# Altium schematic symbol library gliax_ecg_simple.SchLib: 17 symbols
Pins are listed as number, name and electrical type; pins without a type are passive.

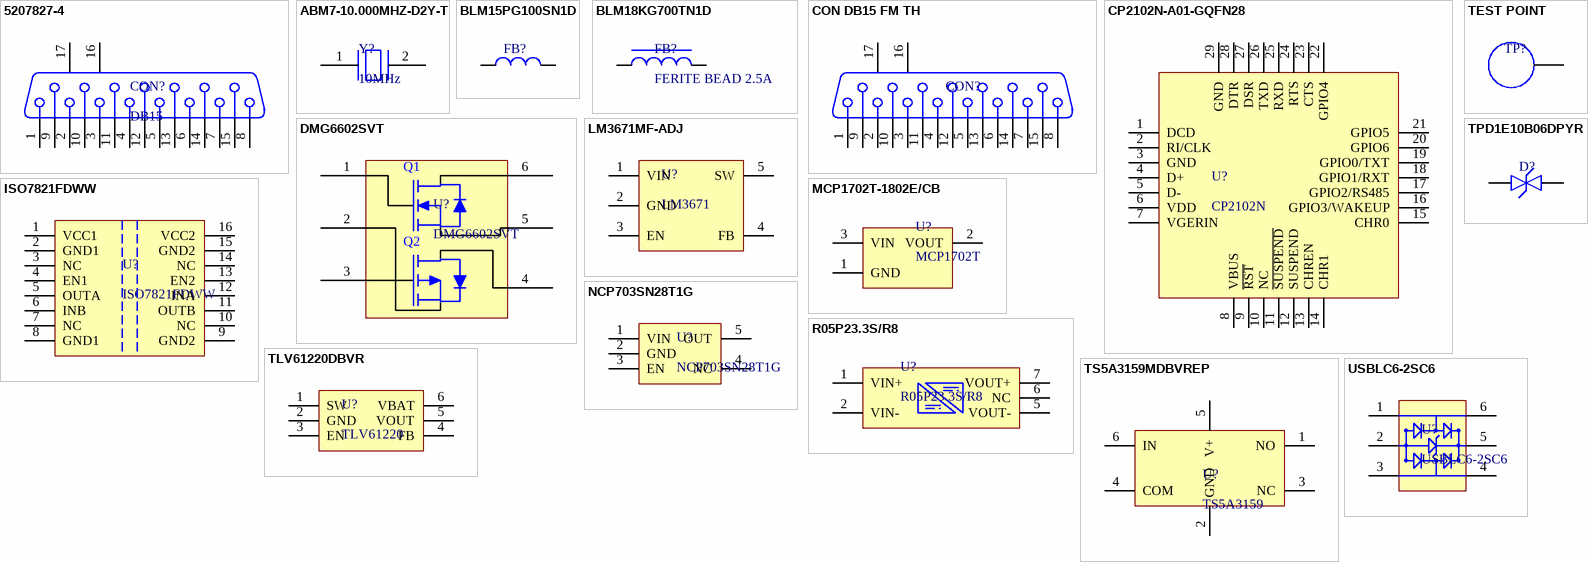
[diagram p0: symbols 5207827-4 to USBLC6-2SC6]

## 5207827-4
designator CON?, comment DB15
D-Sub Standard Connectors DSUB A15S V/MNT; Manufacturer: TE Connectivity; Manufacturer Part Number: 5207827-4; Body Material: Plastic; Voltage Rating: 125V; Current Rating: 6A; Gender: Female; Connector Type: Receptacle; Number of Positions: 15; Number of Ports: 1; Mating Connector Lock: No (Without); PCB Mount Retention: With; PCB Mounting Orientation: Vertical; Preloaded: Yes; Pitch: 0.108inch; PCB Thickness: 2.36mm; Hole Diameter: 0.12inch; Supplier 1: Farnell; Stock 1: 0; Mount: Through Hole; Color: Black; Contact Plating: Gold,Nickel,Tin; Contact Material: Bronze; Number of Terminals: 15; Housing Color: Black; Housing Material: Thermoplastic; Contact Shape: Round; Min Operating Temperature: -55°C; Max Operating Temperature: 105°C; Package Quantity: 13; Number of Rows: 2; Packaging: Rail/Tube; Termination: Solder; Number of Contacts: 15; Orientation: Straight; Sealable: No (Without); Length: 39.14mm; Width: 12.17mm; Depth: 10.41mm; Termination Post Length: 0.125inch; Radiation Hardening: No; REACH SVHC: Unknown; Lead Free: Lead Free; ELV: Compliant; Flammability Rating: UL94 V-0; ComponentLink1URL: http://www.te.com/commerce/DocumentDelivery/DDEController?Action=srchrtrv&DocNm=5207827&DocType=Customer+Drawing&DocLang=English; ComponentLink1Description: http://www.te.com/commerce/DocumentDelivery/DDEController?Action=srchrtrv&DocNm=5207827&DocType=Customer+Drawing&DocLang=English; ComponentLink2URL: http://www.farnell.com/cad/1652241.pdf; ComponentLink2Description: http://www.farnell.com/cad/1652241.pdf; ComponentLink3URL: http://www.te.com/commerce/DocumentDelivery/DDEController?Action=srchrtrv&DocNm=82068_AMPLIMITE_Straight_Posted_Conns&DocType=Catalog+Section&DocLang=English; ComponentLink3Description: http://www.te.com/commerce/DocumentDelivery/DDEController?Action=srchrtrv&DocNm=82068_AMPLIMITE_Straight_Posted_Conns&DocType=Catalog+Section&DocLang=English; ComponentLink4URL: https://www.verical.com/server-webapp/html/getDatasheet?partID=46991; ComponentLink4Description: https://www.verical.com/server-webapp/html/getDatasheet?partID=46991; ComponentLink5URL: http://www.farnell.com/datasheets/1648470.pdf; ComponentLink5Description: http://www.farnell.com/datasheets/1648470.pdf; Supplier Part Number 1: 1815066
footprint CONN_3-106506-2_ - vertical
pins: 1, 2, 3, 4, 5, 6, 7, 8, 9, 10, 11, 12, 13, 14, 15, 16 MH1, 17 MH2

## ABM7-10.000MHZ-D2Y-T
designator Y?, comment 10MHz
Crystal 10MHz 18pF 2-Pin SMD T/R; Manufacturer: Abracon; Manufacturer Part Number: ABM7-10.000MHZ-D2Y-T; Frequency Tolerance: ±20 ppm; Frequency Stability: ±30 ppm; Series Resistance: 60 Ohm; Frequency Aging: ±5(1st) ppm/Year; Mode of Oscillation: Fundamental; Package: 2SMD; Standard Frequency: 10 MHz; Load Capacitance: 18 pF; Type: Crystal; Maximum Operating Temperature: 85 °C; Minimum Operating Temperature: -40 °C; Mounting: Surface Mount; Category: Crystals; ComponentLink1URL: https://datasheet.ciiva.com/16397/abm7-16397372.pdf; ComponentLink1Description: https://datasheet.ciiva.com/16397/abm7-16397372.pdf; Supplier 1: Farnell; Supplier Part Number 1: 2849434
footprint CRYSTAL6mmx3.5mm (Crystal, 6mm x 3.5mm)
pins: 1 (oc), 2 (oc)

## BLM15PG100SN1D
designator FB?  (value not drawn)
Ferrite Beads Multi-Layer 10Ohm 100MHz 1A 50mOhm DCR 0402 T/R; Manufacturer: Murata; Manufacturer Part Number: BLM15PG100SN1D; Material: Steel; Impedance: 10R; Number of Lines: 1; DC Resistance (DCR): 25mR; Shielding: Unshielded; Tolerance: 25%; Supplier 1: Farnell; Stock 1: 794; Pricing 1: 10=0.03, 100=0.0217, 500=0.0163, 2500=0.0122, 5000=0.01, 10000=0.0089, 50000=0.007 (EUR); Case/Package: 0402; Number of Pins: 2; Core Material: Ferrite; Case Code (Metric): 1005; Case Code (Imperial): 0402; Min Operating Temperature: -55°C; Max Operating Temperature: 125°C; Packaging: Tape and Reel; Current Rating: 1A; Number of Circuits: 1; Package Quantity: 1; Max Current Rating: 1A; Termination: SMD/SMT; Max DC Current: 1A; Test Frequency: 100MHz; Length: 1mm; Height: 0.5mm; Width: 0.5mm; Depth: 0.55mm; REACH SVHC: No SVHC; Lead Free: Lead Free; ComponentLink1URL: https://datasheet.ciiva.com/41449/001172209-da-01-en-drossel-0402-10r-1-0x0-5mm-10000st-41449496.pdf; ComponentLink1Description: https://datasheet.ciiva.com/41449/001172209-da-01-en-drossel-0402-10r-1-0x0-5mm-10000st-41449496.pdf; ComponentLink2URL: https://datasheet.ciiva.com/46423/1851892-46423898.pdf; ComponentLink2Description: https://datasheet.ciiva.com/46423/1851892-46423898.pdf; ComponentLink3URL: https://datasheet.ciiva.com/6211/l0110e-6211726.pdf; ComponentLink3Description: https://datasheet.ciiva.com/6211/l0110e-6211726.pdf; Supplier Part Number 1: 2443233
footprint IND0402 (Chip Inductor, 2-Leads, Body 1.00x0.50mm, IPC Medium Density)
pins: 1, 2

## BLM18KG700TN1D
designator FB?, comment FERITE BEAD 2.5A
FERRITE CHIP 70 OHM 3500MA 0603; Manufacturer: Murata; Manufacturer Part Number: BLM18KG700TN1D; Material: Steel,Ferrite; Tolerance: 25%; Impedance: 70R; Current Rating: 3.5A; Number of Lines: 1; DC Resistance (DCR): 22mR; Test Frequency: 100MHz; Supplier 1: Farnell; Stock 1: 12022; Pricing 1: 10=0.0523, 100=0.0324, 500=0.0234, 1000=0.0213, 2000=0.0174, 4000=0.0155, 20000=0.0121 (EUR); Case/Package: 0603; Number of Pins: 2; Weight: 7.1E-05oz; Core Material: Ferrite; Case Code (Metric): 1608; Case Code (Imperial): 0603; Min Operating Temperature: -55°C; Max Operating Temperature: 125°C; Package Quantity: 1; Packaging: Tape and Reel; Max Current Rating: 3.5A; Termination: SMD/SMT; Max DC Current: 3.5A; Number of Circuits: 1; Length: 1.6mm; Height: 0.8mm; Width: 0.8mm; Depth: 0.8mm; REACH SVHC: No SVHC; Lead Free: Lead Free; ComponentLink1URL: https://datasheet.ciiva.com/11795/0900766b81076276-11795742.pdf; ComponentLink1Description: https://datasheet.ciiva.com/11795/0900766b81076276-11795742.pdf; ComponentLink2URL: https://datasheet.ciiva.com/1012/l0110e-1012328.pdf; ComponentLink2Description: https://datasheet.ciiva.com/1012/l0110e-1012328.pdf; ComponentLink3URL: https://datasheet.ciiva.com/1012/l0110e-1012326.pdf; ComponentLink3Description: https://datasheet.ciiva.com/1012/l0110e-1012326.pdf; ComponentLink4URL: https://datasheet.ciiva.com/17170/l0110s0100blm18k-17170007.pdf; ComponentLink4Description: https://datasheet.ciiva.com/17170/l0110s0100blm18k-17170007.pdf; ComponentLink5URL: https://datasheet.ciiva.com/7649/486545-7649494.pdf; ComponentLink5Description: https://datasheet.ciiva.com/7649/486545-7649494.pdf; ComponentLink6URL: https://datasheet.ciiva.com/1012/l0110e-1012327.pdf; ComponentLink6Description: https://datasheet.ciiva.com/1012/l0110e-1012327.pdf; ComponentLink7URL: https://datasheet.ciiva.com/41449/001172296-da-01-en-drossel-0603-70r-31-6x0-8mm-4000st-41449660.pdf; ComponentLink7Description: https://datasheet.ciiva.com/41449/001172296-da-01-en-drossel-0603-70r-31-6x0-8mm-4000st-41449660.pdf; Supplier Part Number 1: 1781088
footprint FB_0603 (Chip Inductor, 2-Leads, Body 1.60x0.80mm, IPC Medium Density)
pins: 1, 2

## CON DB15 FM TH
designator CON?  (value not drawn)
SOCKET, D, 40-40UNC, 15WAY; Manufacturer: TE Connectivity; Manufacturer Part Number: 3-106506-2; Plating: Tin; Body Material: Steel,Metal; Gender: Female; Voltage Rating: 125V; Current Rating: 6A; Connector Type: Receptacle; Number of Positions: 15; Number of Ports: 1; Mating Alignment: Yes (With); PCB Mount Retention: With; PCB Mounting Orientation: Right Angle; Preloaded: Yes; Sealable: No (Without); Pitch: 2.74mm; PCB Thickness: 1.57mm; Supplier 1: Farnell; Stock 1: 773; Pricing 1: 1=3.6, 10=3.17, 50=3.02, 100=2.88, 150=2.49, 250=2.09 (EUR); Mount: Through Hole; Contact Plating: Tin,Gold; Contact Material: Bronze; Colour: Black; Shell Material: Steel; Number of Terminals: 15; Housing Material: Polyester; Material: Steel; Housing Colour: Black; Min Operating Temperature: -55°C; Max Operating Temperature: 105°C; Number of Rows: 2; Packaging: Tray; Package Quantity: 45; Termination: Solder; Number of Contacts: 15; Orientation: Right Angle; Mating Connector Lock: Yes (With); Mating Retention: Yes (With); PCB Mount Alignment: Yes (With); Length: 39.2mm; Width: 13.6mm; Depth: 21.3mm; Termination Post Length: 3.2mm; Radiation Hardening: No; REACH SVHC: Unknown; ELV: Compliant; Flammability Rating: UL94 V-0; ComponentLink1URL: https://datasheet.ciiva.com/11743/0900766b804c485c-11743706.pdf; ComponentLink1Description: https://datasheet.ciiva.com/11743/0900766b804c485c-11743706.pdf; ComponentLink2URL: https://datasheet.ciiva.com/10370/eng-cs-82068-amplimite-right-angle-posted-conn-0412-10370986.pdf; ComponentLink2Description: https://datasheet.ciiva.com/10370/eng-cs-82068-amplimite-right-angle-posted-conn-0412-10370986.pdf; ComponentLink3URL: https://datasheet.ciiva.com/6965/eng-cd-106506-m-6965100.pdf; ComponentLink3Description: https://datasheet.ciiva.com/6965/eng-cd-106506-m-6965100.pdf; Supplier Part Number 1: 3417220
footprint CONN_3-106506-2_
pins: 1, 2, 3, 4, 5, 6, 7, 8, 9, 10, 11, 12, 13, 14, 15, 16 MH1, 17 MH2

## CP2102N-A01-GQFN28
designator U?, comment CP2102N
SILICON LABS         CP2102N-A01-GQFN28             Interface Bridges, USB to UART, 3 V, 3.6 V, QFN, 28 Pins, -40 C                          New; Min Supply Voltage: 3V; Max Supply Voltage: 3.6V; Supplier 1: Farnell; Manufacturer: Silicon Labs; Manufacturer Part Number: CP2102N-A01-GQFN28; Stock 1: 729; Pricing 1: 1=1.31, 10=1.2, 25=1.11, 50=1.09, 100=1.07, 250=1.05, 500=1.03, 1000=1.01 (GBP); Case/Package: QFN; Number of Pins: 28; Min Operating Temperature: -40°C; Max Operating Temperature: 85°C; REACH SVHC: Unknown; Supplier Part Number 1: 2577279; ComponentLink1Description: Datasheet; ComponentLink1URL: https://www.silabs.com/documents/public/data-sheets/cp2102n-datasheet.pdf; ComponentLink2Description: Reference design; ComponentLink2URL: https://download.mikroe.com/documents/add-on-boards/click/usb-uart-3/usb-3-uart-click-schematic-v100.pdf
footprint QFN50P500X500X80_HS-29N (QFN, 28-Leads, Body 5.00x5.00mm, Pitch 0.50mm, Thermal Pad 3.35x3.35mm, IPC Medium Density)
pins: 1 DCD (oc), 2 RI/CLK (oc), 3 GND (oc), 4 D+ (oc), 5 D- (oc), 6 VDD (oc), 7 VGERIN (oc), 8 VBUS (oc), 9 ~{RST} (oc), 10 NC (oc), 11 ~{SUSPEND} (oc), 12 SUSPEND (oc), 13 CHREN (oc), 14 CHR1 (oc), 15 CHR0 (oc), 16 GPIO3/WAKEUP (oc), 17 GPIO2/RS485 (oc), 18 GPIO1/RXT (oc), 19 GPIO0/TXT (oc), 20 GPIO6 (oc), 21 GPIO5 (oc), 22 GPIO4 (oc), 23 CTS (oc), 24 RTS (oc), 25 RXD (oc), 26 TXD (oc), 27 DSR (oc), 28 DTR (oc), 29 GND (oc)

## DMG6602SVT
designator U?
DIODES INC. - DMG6602SVT - MOSFET, NP CH, , 30V, 3.4, ATSOT23; Transistor Polarity: N and P Channel; Continuous Drain Current Id: 3.4; Drain Source Voltage Vds: 30; On Resistance Rds(on): 0.038; Rds(on) Test Voltage Vgs: 10; Threshold Voltage Vgs: 1; Power Dissipation Pd: 1.12; Transistor Case Style: TSOT-26; No. of Pins: 6; SVHC: No SVHC (17-Dec-2015); Continuous Drain Current Id, P Channel: -2.8; Drain Source Voltage Vds, P Channel: -30; Module Configuration: Dual; On Resistance Rds(on), P Channel: 0.073; Supplier 1: Farnell; Manufacturer: DIODES INC.; Manufacturer Part Number: DMG6602SVT; RoHS: YES; Stock 1: 4881; Pricing 1: 1=0.363, 25=0.339, 100=0.169, 250=0.166, 500=0.108, 1000=0.0809, 2000=0.0793, 6000=0.0777 (GBP); Operating Temperature Max: 150; Product Range: -; Automotive Qualification Standard: -; MSL: -; Continuous Drain Current Id, N Channel: 3.4; Drain Source Voltage Vds, N Channel: 30; On Resistance Rds(on), N Channel: 0.038; Operating Temperature Min: -55; Operating Temperature Range: -55°C to +150°C<!--FANDB--><div class="features-and-benefits-container"><div class="features-and-benefits-description"><span class="features-benefits-value">The DMG6602SVT from Diode Inc is a surface mount complementary pair enhancement mode MOSFET in TSOT-26 package. This MOSFET features low input capacitance, fast switching speed and low input/output leakage, designed to minimize the onstate resistance and maintain superior switching performance, making it ideal for high efficiency power management applications and backlighting.</span></div><div class="features-and-benefits-list"><ul class="features-and-benefits-list-list"><li class="features-and-benefits-list-item">Automotive grade AEC-Q101 qualified</li><li class="features-and-benefits-list-item">UL recognized</li><li class="features-and-benefits-list-item">Drain to source voltage (Vds) of 30V</li><li class="features-and-benefits-list-item">Gate to source voltage (Vgs) of ±20V</li><li class="features-and-benefits-list-item">Continuous drain current of 3.4A</li><li class="features-and-benefits-list-item">Power dissipation (Pd) of 1.27W</li><li class="features-and-benefits-list-item">Operating temperature range -55°C to 150°C</li><li class="features-and-benefits-list-item">Low on state resistance of 38mohm at Vgs of 10; ComponentLink1URL: http://www.farnell.com/datasheets/1915929.pdf; ComponentLink1Description: http://www.farnell.com/datasheets/1915929.pdf; Supplier Part Number 1: 2061522
footprint TSOT26
pins: 1 G1 (oc), 2 S2 (oc), 3 G2 (oc), 4 D2 (oc), 5 S1 (oc), 6 D1 (oc)
text: Q1; Q2

## ISO7821FDWW
designator U?
TEXAS INSTRUMENTS         ISO7821FDWW             Digital Isolator, 100 MBPS, 2 Channel, 11 ns, 2.25 V, 5.5 V, SOIC, 16 Pins; Number of Channels: 2; Channel Type: Unidirectional; Propagation Delay: 16ns; Min Supply Voltage: 2.25V; Max Supply Voltage: 5.5V; Isolated Power: No; Pulse Width Distortion (PWD): 4.6ns; Supplier 1: Digi-Key; Manufacturer: Texas Instruments; Manufacturer Part Number: ISO7821FDWW; Stock 1: 874; Pricing 1: 1=7.92, 10=7.151, 45=6.81822, 135=5.9203, 540=5.1553, 1035=4.4901 (USD); Case/Package: SOIC; Number of Pins: 16; Min Operating Temperature: -55°C; Max Operating Temperature: 125°C; Packaging: Rail/Tube; Data Rate: 100Mbps; Type: General Purpose; REACH SVHC: No SVHC; Lead Free: Lead Free; Supplier Part Number 1: 296-43869-5-ND
footprint SOIC127P1720X264-16N (SOIC, 16-Leads, Body 10.30x14.00mm, Pitch 1.27mm, IPC Medium Density)
pins: 1 VCC1 (oc), 2 GND1 (oc), 3 NC (oc), 4 EN1 (oc), 5 OUTA (oc), 6 INB (oc), 7 NC (oc), 8 GND1 (oc), 9 GND2 (oc), 10 NC (oc), 11 OUTB (oc), 12 INA (oc), 13 EN2 (oc), 14 NC (oc), 15 GND2 (oc), 16 VCC2 (oc)

## LM3671MF-ADJ
designator U?, comment LM3671
IC REG BCK ADJ 0.6A SYNC SOT23-5; Manufacturer: Texas Instruments; Manufacturer Part Number: LM3671MF-ADJ; Frequency: 2MHz; Number of Outputs: 1; Output Current: 600mA; Switching Frequency: 2.6MHz; Output Voltage: 3.3V; Quiescent Current: 1.7mA; Max Input Voltage: 5.5V; Min Supply Voltage: 2.7V; Min Output Voltage: 1.1V; Synchronous Rectifier: Yes; Supplier 1: Farnell; Stock 1: 1509; Pricing 1: 1=0.575, 30=0.472, 80=0.43, 250=0.39, 500=0.304 (GBP); Mount: Surface Mount; Case/Package: SOT-23; Number of Pins: 5; Min Operating Temperature: -40°C; Max Operating Temperature: 85°C; Packaging: Tape and Reel; Package Quantity: 1000; Termination: SMD/SMT; Max Output Current: 600mA; Max Supply Voltage: 5.5V; Min Input Voltage: 2.7V; Max Output Voltage: 3.3V; Radiation Hardening: No; Lead Free: Contains Lead; REACH SVHC: No SVHC; ComponentLink1URL: https://datasheet.ciiva.com/12224/lm3671-12224984.pdf; ComponentLink1Description: https://datasheet.ciiva.com/12224/lm3671-12224984.pdf; ComponentLink2URL: https://datasheet.ciiva.com/14304/lm3671-14304698.pdf; ComponentLink2Description: https://datasheet.ciiva.com/14304/lm3671-14304698.pdf; Supplier Part Number 1: 1008256
footprint SOT95P280X145-5N (SOT23, 5-Leads, Body 2.90x2.80mm, Pitch 0.95mm, IPC Medium Density)
pins: 1 VIN (oc), 2 GND (oc), 3 EN (oc), 4 FB (oc), 5 SW (oc)

## MCP1702T-1802E/CB
designator U?, comment MCP1702T
IC REG LDO 1.8V 0.2A SOT23A-3; Manufacturer: Microchip; Manufacturer Part Number: MCP1702T-1802E/CB; Number of Outputs: 1; Min Input Voltage: 2.7V; Max Input Voltage: 13.2V; Max Output Current: 250mA; Dropout Voltage: 330mV; Input Bias Current: 2uA; Polarity: Positive; Quiescent Current: 5uA; Accuracy: 2%; Power Dissipation: 253mW; Output Type: Fixed; Supplier 1: Digi-Key; Stock 1: 4052; Pricing 1: 1=0.49, 25=0.412, 100=0.3708 (USD); Mount: Surface Mount; Case/Package: SOT-23; Number of Pins: 3; Min Operating Temperature: -40°C; Max Operating Temperature: 125°C; Package Quantity: 3000; Output Voltage: 1.8V; Packaging: Tape and Reel; Output Current: 250mA; Nominal Output Voltage: 1.8V; Max Supply Voltage: 13.2V; Min Supply Voltage: 2.7V; Min Output Voltage: 1.8V; Max Output Voltage: 1.8V; Termination: SMD/SMT; Output Voltage Accuracy: 2%; Nominal Supply Current: 5uA; Length: 3.1mm; Height: 1.3mm; Width: 1.8mm; Radiation Hardening: No; REACH SVHC: No SVHC; Lead Free: Lead Free; ComponentLink1URL: http://www.microchip.com/mymicrochip/filehandler.aspx?ddocname=en028186; ComponentLink1Description: http://www.microchip.com/mymicrochip/filehandler.aspx?ddocname=en028186; ComponentLink2URL: https://www.distrelec.biz/Web/Downloads/_t/ds/MCP1702_eng_tds.pdf?mime=application%2Fpdf; ComponentLink2Description: https://www.distrelec.biz/Web/Downloads/_t/ds/MCP1702_eng_tds.pdf?mime=application%2Fpdf; ComponentLink3URL: http://ww1.microchip.com/downloads/en/DeviceDoc/22008E.pdf; ComponentLink3Description: http://ww1.microchip.com/downloads/en/DeviceDoc/22008E.pdf; ComponentLink4URL: http://www.produktinfo.conrad.com/datenblaetter/1000000-1099999/001085880-da-01-en-IC_REG_L_MCP1702T_1802E_CB_T23A_SO_3_MCP.pdf; ComponentLink4Description: http://www.produktinfo.conrad.com/datenblaetter/1000000-1099999/001085880-da-01-en-IC_REG_L_MCP1702T_1802E_CB_T23A_SO_3_MCP.pdf; Supplier Part Number 1: MCP1702T-1802E/CBCT-ND
pins: 1 GND (oc), 2 VOUT (oc), 3 VIN (oc)

## NCP703SN28T1G
designator U?
LDO Voltage Regulators 300mA Lo Quiescent Crnt LDO Reg; Manufacturer: ON Semiconductor; Dropout Voltage: 180mV; Max Input Voltage: 5.5V; Output Voltage: 2.8V; Min Input Voltage: 2V; Number of Outputs: 1; Max Output Current: 750mA; Min Current Limit: 310mA; Quiescent Current: 20uA; Polarity: Positive; Accuracy: 2%; Power Supply Rejection Ratio (PSRR): 70dB; Output Type: Fixed; Supplier 1: Digi-Key; Manufacturer Part Number: NCP703SN28T1G; Stock 1: 3338; Pricing 1: 1=0.8, 10=0.707, 100=0.542, 500=0.42848, 1000=0.34278 (USD); Mount: Surface Mount; Case/Package: TSOP; Number of Pins: 5; Min Operating Temperature: -40°C; Max Operating Temperature: 125°C; Package Quantity: 3000; Packaging: Tape and Reel; Output Current: 300mA; Number of Regulators: 1; Nominal Output Voltage: 2.8V; Length: 3mm; Height: 1mm; Width: 1.5mm; Radiation Hardening: No; REACH SVHC: No SVHC; Lead Free: Lead Free; Halogen Free: Halogen Free; ComponentLink1URL: http://www.onsemi.com/pub/Collateral/NCP703-D.PDF; ComponentLink1Description: http://www.onsemi.com/pub/Collateral/NCP703-D.PDF; Supplier Part Number 1: NCP703SN28T1GOSCT-ND
footprint TSOP95P280X110-6N (TSOP, 6-Leads, Body 3.00x1.50mm, Pitch 0.95mm, IPC Medium Density)
pins: 1 VIN (oc), 2 GND (oc), 3 EN (oc), 4 NC (oc), 5 OUT (oc)

## R05P23.3S/R8
designator U?
RECOM POWER         R05P23.3S/R8            Isolated Board Mount DC/DC Converter, Medical, Fixed, 1 Output, 4.5 V, 5.5 V, 2 W, 3.3 V; Nominal Input Voltage: 5V; Number of Outputs: 1; Output Power: 2W; Min Input Voltage: 4.5V; Max Input Voltage: 5.5V; Max Output Current: 600mA; Output Voltage: 3.3V; Efficiency: 78%; Isolation Voltage: 8kV; Supplier 1: Digi-Key; Manufacturer: Recom; Manufacturer Part Number: R05P23.3S/R8; Stock 1: 0; Mount: Through Hole; Case/Package: SIP; Number of Pins: 4; Weight: 4.3g; Min Operating Temperature: -40°C; Max Operating Temperature: 85°C; Packaging: Rail/Tube; Output Current: 600mA; Min Input Voltage (DC): 4.5V; Package Quantity: 25; Voltage - Output 1: 3.3V; Max Input Voltage (DC): 5.5V; Max Output Power: 2W; Current - Output 1: 600mA; Isolation: Isolated; Max Power Dissipation: 2W; Max Output Voltage: 3.3V; Length: 19.5mm; Height: 12.5mm; Width: 9.8mm; Depth: 9.8mm; REACH SVHC: No SVHC; Lead Free: Lead Free; ComponentLink1URL: http://www.farnell.com/datasheets/1776690.pdf; ComponentLink1Description: http://www.farnell.com/datasheets/1776690.pdf; ComponentLink2URL: https://www.recom-power.com/pdf/Econoline/RxxP2xx_R.pdf; ComponentLink2Description: https://www.recom-power.com/pdf/Econoline/RxxP2xx_R.pdf; Supplier Part Number 1: 1486-R05P23.3S/R8-CHP
footprint DCDC
pins: 1 VIN+ (oc), 2 VIN- (oc), 5 VOUT- (oc), 6 NC (oc), 7 VOUT+ (oc)

## TEST POINT
designator TP?  (value not drawn)  (no BOM)
footprint TEST_POINT
pins: 1 (oc)

## TLV61220DBVR
designator U?, comment TLV61220
IC REG BST ADJ 0.22A SYNC SOT23; Manufacturer: Texas Instruments; Manufacturer Part Number: TLV61220DBVR; Output Voltage: 5.5V; Number of Outputs: 1; Output Current: 200mA; Efficiency: 95%; Min Input Voltage: 700mV; Min Output Voltage: 1.8V; Synchronous Rectifier: Yes; Switching Frequency: 2MHz; Max Output Current: 400mA; Quiescent Current: 5uA; Topology: Boost; Supplier 1: Farnell; Stock 1: 0; Mount: Surface Mount; Case/Package: SOT-23-6; Number of Pins: 6; Min Operating Temperature: -40°C; Max Operating Temperature: 85°C; Package Quantity: 1; Packaging: Tape and Reel; Max Input Voltage: 5.5V; Max Output Voltage: 5.5V; Length: 3.05mm; Height: 1.3mm; Width: 1.75mm; Radiation Hardening: No; REACH SVHC: No SVHC; Lead Free: Lead Free; ComponentLink1URL: https://datasheet.ciiva.com/22669/1716602-22669510.pdf; ComponentLink1Description: https://datasheet.ciiva.com/22669/1716602-22669510.pdf; ComponentLink2URL: https://datasheet.ciiva.com/6594/tlv61220-6594213.pdf; ComponentLink2Description: https://datasheet.ciiva.com/6594/tlv61220-6594213.pdf; ComponentLink3URL: https://datasheet.ciiva.com/6594/tlv61220-6594214.pdf; ComponentLink3Description: https://datasheet.ciiva.com/6594/tlv61220-6594214.pdf; ComponentLink4URL: https://datasheet.ciiva.com/6594/tlv61220-6594215.pdf; ComponentLink4Description: https://datasheet.ciiva.com/6594/tlv61220-6594215.pdf; ComponentLink5URL: https://datasheet.ciiva.com/14273/tlv61220-14273197.pdf; ComponentLink5Description: https://datasheet.ciiva.com/14273/tlv61220-14273197.pdf; Supplier Part Number 1: 2323546
pins: 1 SW (oc), 2 GND (oc), 3 EN (oc), 4 FB (oc), 5 VOUT (oc), 6 VBAT (oc)

## TPD1E10B06DPYR
designator D?  (value not drawn)
TVS DIODE 5.5VWM 14VC 2X2SON; Manufacturer: Texas Instruments; Manufacturer Part Number: TPD1E10B06DPYR; Capacitance: 12pF; Direction: Bidirectional; Breakdown Voltage: 6V; Number of Channels: 1; Reverse Standoff Voltage: 5.5V; Clamping Voltage: 14V; Peak Pulse Power: 90W; Power Line Protection: No; Leakage Current: 100nA; ESD Protection: Yes; Test Current: 1mA; Element Configuration: Single; Peak Pulse Current: 5A; Interface: GPIO; Supplier 1: Farnell; Stock 1: 6208; Pricing 1: 1=0.415, 50=0.312, 100=0.117, 250=0.108, 500=0.0992, 1000=0.0902 (EUR); Case/Package: 0402; Number of Pins: 2; Contact Plating: Gold; Min Operating Temperature: -40°C; Max Operating Temperature: 125°C; Package Quantity: 1; Packaging: Tape and Reel; Number of Bidirectional Channels: 1; Min Breakdown Voltage: 6V; Working Voltage: 5.5V; Max Reverse Leakage Current: 100nA; Length: 1.1mm; Height: 0.35mm; Width: 0.7mm; Radiation Hardening: No; REACH SVHC: No SVHC; Lead Free: Lead Free; ComponentLink1URL: https://datasheet.ciiva.com/26005/sllseb1b-26005840.pdf; ComponentLink1Description: https://datasheet.ciiva.com/26005/sllseb1b-26005840.pdf; ComponentLink2URL: https://datasheet.ciiva.com/46384/1877100-46384054.pdf; ComponentLink2Description: https://datasheet.ciiva.com/46384/1877100-46384054.pdf; ComponentLink3URL: https://datasheet.ciiva.com/14195/tpd1e10b06-14195178.pdf; ComponentLink3Description: https://datasheet.ciiva.com/14195/tpd1e10b06-14195178.pdf; ComponentLink4URL: https://datasheet.ciiva.com/22691/1877100-22691786.pdf; ComponentLink4Description: https://datasheet.ciiva.com/22691/1877100-22691786.pdf; ComponentLink5URL: https://datasheet.ciiva.com/2961/tpd1e10b06-2961245.pdf; ComponentLink5Description: https://datasheet.ciiva.com/2961/tpd1e10b06-2961245.pdf; ComponentLink6URL: https://datasheet.ciiva.com/2961/tpd1e10b06-2961246.pdf; ComponentLink6Description: https://datasheet.ciiva.com/2961/tpd1e10b06-2961246.pdf; ComponentLink7URL: https://datasheet.ciiva.com/6574/tpd1e10b06-6574654.pdf; ComponentLink7Description: https://datasheet.ciiva.com/6574/tpd1e10b06-6574654.pdf; Supplier Part Number 1: 2345930
footprint D0402
pins: 1 (oc), 2 (oc)

## TS5A3159MDBVREP
designator U?, comment TS5A3159
Manufacturer: Texas Instruments; Manufacturer Part Number: TS5A3159MDBVREP; Min Supply Voltage: 1.65V; Max Supply Voltage: 5.5V; Number of Channels: 1; Number of Outputs: 2; On-State Resistance: 1.1R; Turn-On Delay Time: 35ns; Turn-Off Delay Time: 20ns; Max Supply Current: 100nA; Supply Type: Single; Throw Configuration: SPDT; Bandwidth: 100MHz; Supplier 1: Farnell; Stock 1: 2959; Pricing 1: 1=1.72, 25=1.46, 50=1.32, 100=1.17, 250=1.1, 500=1.02 (EUR); Mount: Surface Mount; Case/Package: SOT-23-6; Number of Pins: 6; Weight: 0.000229oz; Min Operating Temperature: -55°C; Max Operating Temperature: 125°C; Packaging: Tape and Reel; Package Quantity: 3000; Number of Inputs: 1; Operating Supply Current: 100nA; Radiation Hardening: No; REACH SVHC: No SVHC; Lead Free: Lead Free; ComponentLink1URL: https://datasheet.ciiva.com/4918/scds217b-126734-4918496.pdf; ComponentLink1Description: https://datasheet.ciiva.com/4918/scds217b-126734-4918496.pdf; ComponentLink2URL: https://datasheet.ciiva.com/14435/ts5a3159-ep-14435168.pdf; ComponentLink2Description: https://datasheet.ciiva.com/14435/ts5a3159-ep-14435168.pdf; ComponentLink3URL: https://datasheet.ciiva.com/1672/ts5a3159-ep-1672100.pdf; ComponentLink3Description: https://datasheet.ciiva.com/1672/ts5a3159-ep-1672100.pdf; ComponentLink4URL: https://datasheet.ciiva.com/41461/001187279-da-01-en-ic-switch-s-ts5a3159mdbvrep-sot-23-6-tid-41461728.pdf; ComponentLink4Description: https://datasheet.ciiva.com/41461/001187279-da-01-en-ic-switch-s-ts5a3159mdbvrep-sot-23-6-tid-41461728.pdf; ComponentLink5URL: https://datasheet.ciiva.com/1672/ts5a3159-ep-1672101.pdf; ComponentLink5Description: https://datasheet.ciiva.com/1672/ts5a3159-ep-1672101.pdf; ComponentLink6URL: https://datasheet.ciiva.com/1672/ts5a3159-ep-1672102.pdf; ComponentLink6Description: https://datasheet.ciiva.com/1672/ts5a3159-ep-1672102.pdf; Supplier Part Number 1: 2459821
footprint SOT95P280X145-6N (SOT23, 6-Leads, Body 2.90x2.80mm, Pitch 0.95mm, IPC Medium Density)
pins: 1 NO, 2 GND, 3 NC, 4 COM, 5 V+, 6 IN

## USBLC6-2SC6
designator U?
TVS DIODE 5.25VWM 17VC SOT23-6; Manufacturer: STMicroelectronics; Polarity: Bidirectional,Unidirectional; Data Rate: 480Mbps; Capacitance: 3.5pF; Operating Supply Voltage: 1.1V; Number of Elements: 1; Number of Channels: 2; Reverse Breakdown Voltage: 6V; Clamping Voltage: 17V; Working Voltage: 5V; Reverse Standoff Voltage: 5.25V; Power Line Protection: Yes; Test Current: 1mA; Max Reverse Leakage Current: 150nA; Peak Pulse Current: 5A; Element Configuration: Dual; Supplier 1: Farnell; Manufacturer Part Number: USBLC6-2SC6; Stock 1: 40838; Pricing 1: 5=0.327, 50=0.216, 100=0.165, 500=0.155, 1500=0.145 (GBP); Mount: Surface Mount; Case/Package: SOT-23; Number of Pins: 6; Contact Plating: Matte,Tin; Min Operating Temperature: -40°C; Max Operating Temperature: 125°C; Package Quantity: 3000; Packaging: Tape and Reel; Direction: Bidirectional,Unidirectional; Breakdown Voltage: 6V; Termination: SMD/SMT; Number of Bidirectional Channels: 2; Min Breakdown Voltage: 6V; ESD Protection: Yes; Max Breakdown Voltage: 6V; Leakage Current: 150nA; Length: 3.05mm; Height: 1.3mm; Width: 1.75mm; Depth: 1.75mm; Radiation Hardening: No; Lead Free: Lead Free; REACH SVHC: No SVHC; ComponentLink1URL: http://www.farnell.com/datasheets/1690354.pdf; ComponentLink1Description: http://www.farnell.com/datasheets/1690354.pdf; ComponentLink2URL: http://www.st.com/content/ccc/resource/technical/document/datasheet/06/1d/48/9c/6c/20/4a/b2/CD00050750.pdf/files/CD00050750.pdf/jcr:content/translations/en.CD00050750.pdf; ComponentLink2Description: http://www.st.com/content/ccc/resource/technical/document/datasheet/06/1d/48/9c/6c/20/4a/b2/CD00050750.pdf/files/CD00050750.pdf/jcr:content/translations/en.CD00050750.pdf; ComponentLink3URL: http://www.st.com/web/en/resource/technical/document/datasheet/CD00050750.pdf; ComponentLink3Description: http://www.st.com/web/en/resource/technical/document/datasheet/CD00050750.pdf; ComponentLink4URL: http://datasheet.iiic.cc/stmicroelectronics/USBLC6-2SC6.pdf; ComponentLink4Description: http://datasheet.iiic.cc/stmicroelectronics/USBLC6-2SC6.pdf; ComponentLink5URL: http://www.produktinfo.conrad.com/datenblaetter/1100000-1199999/001184109-da-01-en-IC_ESD_PROTECTI_USBLC6_2SC6_SOT_23_6_STM.pdf; ComponentLink5Description: http://www.produktinfo.conrad.com/datenblaetter/1100000-1199999/001184109-da-01-en-IC_ESD_PROTECTI_USBLC6_2SC6_SOT_23_6_STM.pdf; Supplier Part Number 1: 1269406
footprint SOT95P280X145-6N (SOT23, 6-Leads, Body 2.90x2.80mm, Pitch 0.95mm, IPC Medium Density)
pins: 1 (oc), 2 (oc), 3 (oc), 4 (oc), 5 (oc), 6 (oc)